# Altium schematic symbol library LED_WHITE.Schlib: 1 symbol
Pins are listed as number, name and electrical type; pins without a type are passive.

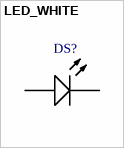
[diagram p0: symbol LED_WHITE]

## LED_WHITE
designator DS?
pins: 1 K, 2 A